# Altium schematic symbol library RN-9P.SchLib: 1 symbol
Pins are listed as number, name and electrical type; pins without a type are passive.

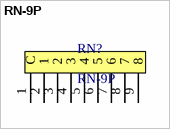
[diagram p0: symbol RN-9P]

## RN-9P
designator RN?
footprint RN-9P
pins: 1 C, 2 1, 3 2, 4 3, 5 4, 6 5, 7 6, 8 7, 9 8